# EAGLE library part DSPIC33EPXXXGP504 (library ahrs)
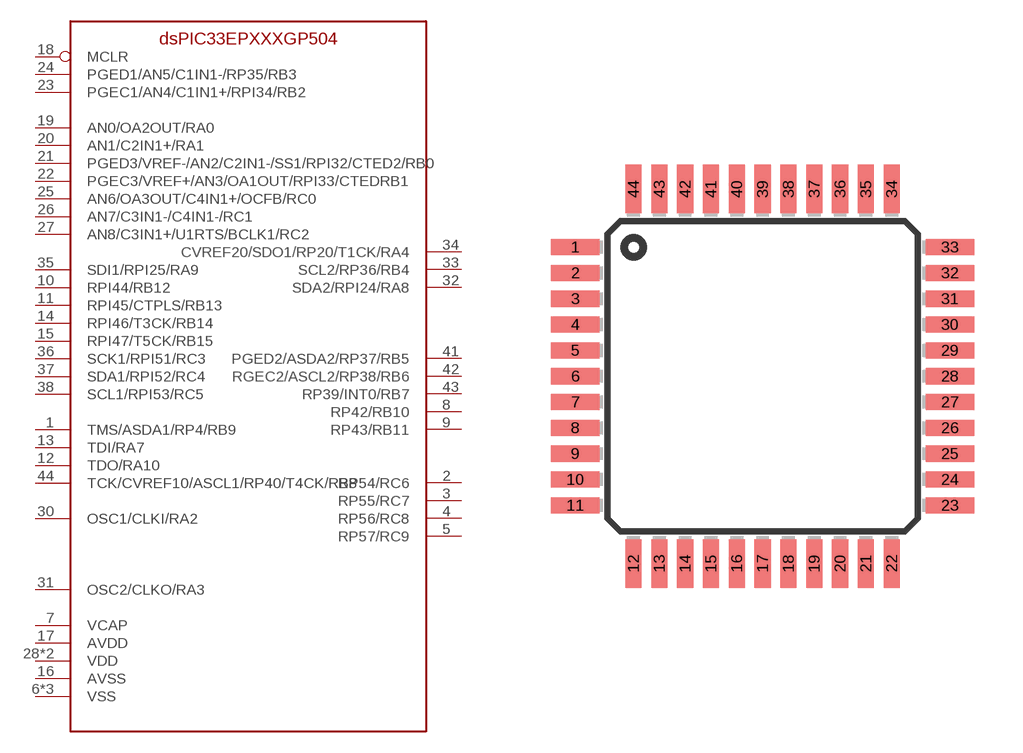
[diagram p8: symbol with the pads of TQFP44; footprint TQFP44]

Designator prefix -

## DSPIC33EPXXXGP504  [TQFP44]
1  TMS/ASDA1/RP4/RB9
2  RP54/RC6
3  RP55/RC7
4  RP56/RC8
5  RP57/RC9
6  VSS
7  VCAP
8  RP42/RB10
9  RP43/RB11
10  RPI44/RB12
11  RPI45/CTPLS/RB13
12  TDO/RA10
13  TDI/RA7
14  RPI46/T3CK/RB14
15  RPI47/T5CK/RB15
16  AVSS
17  AVDD
18  MCLR  in
19  AN0/OA2OUT/RA0
20  AN1/C2IN1+/RA1
21  PGED3/VREF-/AN2/C2IN1-/SS1/RPI32/CTED2/RB0
22  PGEC3/VREF+/AN3/OA1OUT/RPI33/CTEDRB1
23  PGEC1/AN4/C1IN1+/RPI34/RB2
24  PGED1/AN5/C1IN1-/RP35/RB3
25  AN6/OA3OUT/C4IN1+/OCFB/RC0
26  AN7/C3IN1-/C4IN1-/RC1
27  AN8/C3IN1+/U1RTS/BCLK1/RC2
28  VDD
29  VSS
30  OSC1/CLKI/RA2
31  OSC2/CLKO/RA3
32  SDA2/RPI24/RA8
33  SCL2/RP36/RB4
34  CVREF20/SDO1/RP20/T1CK/RA4
35  SDI1/RPI25/RA9
36  SCK1/RPI51/RC3
37  SDA1/RPI52/RC4
38  SCL1/RPI53/RC5
39  VSS
40  VDD
41  PGED2/ASDA2/RP37/RB5
42  RGEC2/ASCL2/RP38/RB6
43  RP39/INT0/RB7
44  TCK/CVREF10/ASCL1/RP40/T4CK/RB8

## Footprint TQFP44 (pad centres in mm)
Thin Quad Flat Pack package type TQ
smd 1.5 x 0.5: 1 -5.8,4; 2 -5.8,3.2; 3 -5.8,2.4; 4 -5.8,1.6; 5 -5.8,0.8; 6 -5.8,0; 7 -5.8,-0.8; 8 -5.8,-1.6; 9 -5.8,-2.4; 10 -5.8,-3.2; 11 -5.8,-4; 23 5.8,-4; 24 5.8,-3.2; 25 5.8,-2.4; 26 5.8,-1.6; 27 5.8,-0.8; 28 5.8,0; 29 5.8,0.8; 30 5.8,1.6; 31 5.8,2.4; 32 5.8,3.2; 33 5.8,4
smd 0.5 x 1.5: 12 -4,-5.8; 13 -3.2,-5.8; 14 -2.4,-5.8; 15 -1.6,-5.8; 16 -0.8,-5.8; 17 0,-5.8; 18 0.8,-5.8; 19 1.6,-5.8; 20 2.4,-5.8; 21 3.2,-5.8; 22 4,-5.8; 34 4,5.8; 35 3.2,5.8; 36 2.4,5.8; 37 1.6,5.8; 38 0.8,5.8; 39 0,5.8; 40 -0.8,5.8; 41 -1.6,5.8; 42 -2.4,5.8; 43 -3.2,5.8; 44 -4,5.8